# EAGLE library part MCP6L (library microcodes)
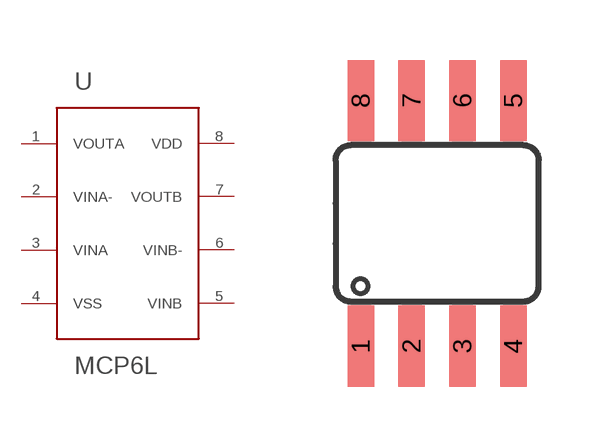
[diagram p6: symbol with the pads of SOIC8; footprint SOIC8]

Designator prefix -

## MCP6L  [SOIC8]
1  VOUTA  out
2  VINA-  in
3  VINA  in
4  VSS  pwr
5  VINB  in
6  VINB-  in
7  VOUTB  out
8  VDD  pwr

## Footprint SOIC8 (pad centres in mm)
SOIC 150 mil without dissipation pad. based on soic8 footprint from the maxim library. I've changed tPlace elements, named the pins and fixed a weird misalignment on the third pin of the bottom row which I suppose it was the designer's signature.
smd 0.66 x 2.032: 1 -1.905,-3.073; 2 -0.635,-3.073; 3 0.635,-3.073; 4 1.905,-3.073; 5 1.905,3.073; 6 0.635,3.073; 7 -0.635,3.073; 8 -1.905,3.073